# Altium schematic symbol library Sim_socket.SchLib: 1 symbol
Pins are listed as number, name and electrical type; pins without a type are passive.

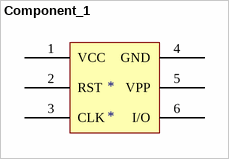
[diagram p0: symbol Component_1]

## Component_1
designator *
footprint PCBComponent_1
pins: 1 VCC, 2 RST, 3 CLK, 4 GND, 5 VPP, 6 I/O